# Altium schematic symbol library EIGHT_29.SchLib: 68 symbols
Pins are listed as number, name and electrical type; pins without a type are passive.

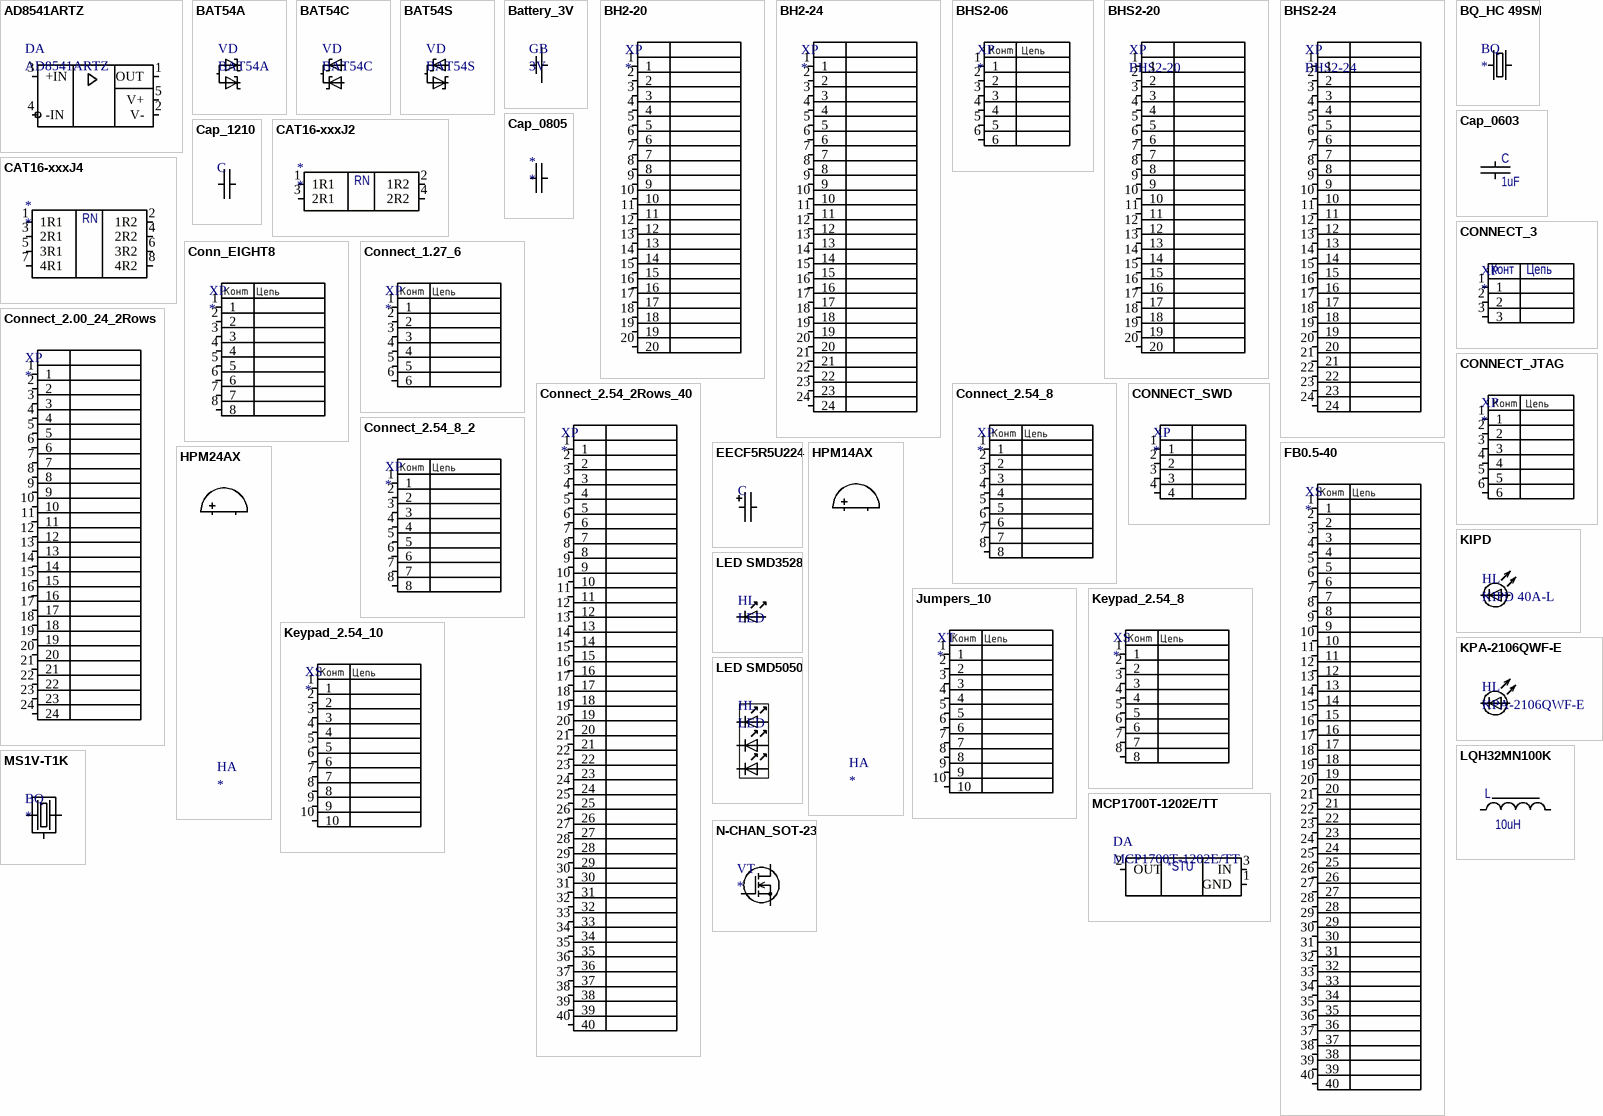
[diagram p0: symbols AD8541ARTZ to N-CHAN_SOT-23]

## AD8541ARTZ
designator DA
OpAmp
footprint SOT23-5
pins: 1 OUT, 2 V-, 3 +IN, 4 -IN, 5 V+

## BAT54A
designator VD
Part Number: BAT54A
footprint SOT-23
pins: 1, 2, 3

## BAT54C
designator VD
Part Number: BAT54C
footprint SOT-23
pins: 1, 2, 3

## BAT54S
designator VD
Part Number: BAT54S
footprint SOT-23
pins: 1, 2, 3

## Battery_3V
designator GB, comment 3V
Keystone - 1066; Part Number: Keystone - 1066; Price: 40.0
footprint Keystone-1066 (Bat holder)
pins: 1, 2

## BH2-20
designator XP
Part Number: BH2-20
footprint BH2-20
pins: 1, 2, 3, 4, 5, 6, 7, 8, 9, 10, 11, 12, 13, 14, 15, 16, 17, 18, 19, 20

## BH2-24
designator XP
footprint BH2-24
pins: 1, 2, 3, 4, 5, 6, 7, 8, 9, 10, 11, 12, 13, 14, 15, 16, 17, 18, 19, 20, 21, 22, 23, 24

## BHS2-06
designator XP
BHS2-06; Price: 10; Distributor: http://www.brownbear.ru/; Part Number: BHS2-06; PackageReference: SMD; Manufacturer: http://www.brownbear.ru/
footprint BHS2-06
pins: 1, 2, 3, 4, 5, 6

## BHS2-20
designator XP
Manufacturer: http://www.mobicon.ru; PackageReference: BHS2-20; Part Number: BHS2-20; Distributor: http://www.mobicon.ru; Price: 20
footprint BHS2-20
pins: 1, 2, 3, 4, 5, 6, 7, 8, 9, 10, 11, 12, 13, 14, 15, 16, 17, 18, 19, 20

## BHS2-24
designator XP
Manufacturer: http://www.mobicon.ru; PackageReference: BHS2-24; Part Number: BHS2-24; Distributor: http://www.mobicon.ru; Price: 20
footprint BHS2-24
pins: 1, 2, 3, 4, 5, 6, 7, 8, 9, 10, 11, 12, 13, 14, 15, 16, 17, 18, 19, 20, 21, 22, 23, 24

## BQ_HC 49SM
designator BQ
footprint HC 49SM
pins: 1, 2

## Cap_0603
designator C, comment 1uF
Manufacturer: AVX; Part Number: 0603YC105KAT2A; Replacement: GRM188R71E105KA12D; PackageReference: 0603; Value: 1uF; Distributor: http://www.rospek.ru; Price: 3.00
footprint CAP_0603
pins: 1, 2

## Cap_0805
designator *
footprint CAP_0805
pins: 1, 2

## Cap_1210
designator C
Manufacturer: KEMET; Part Number: C1210C475K5RACAUTO; Value: 4.7uF; PackageReference: 1210; Distributor: http://chipdip.ru/; Price: 80
footprint 1210
pins: 1, 2

## CAT16-xxxJ2
designator *
footprint CAT16-xxxJ2
pins: 1 1R1, 2 1R2, 3 2R1, 4 2R2
text: RN

## CAT16-xxxJ4
designator *
footprint CAT16-xxxJ4
pins: 1 1R1, 2 1R2, 3 2R1, 4 2R2, 5 3R1, 6 3R2, 7 4R1, 8 4R2
text: RN

## Conn_EIGHT8
designator XP
footprint CONN2-8 (BH2-20)
pins: 1, 2, 3, 4, 5, 6, 7, 8

## Connect_1.27_6
designator XP
Part Number: PLL1.27-6
footprint CONN_1.24_6
pins: 1, 2, 3, 4, 5, 6

## Connect_2.00_24_2Rows
designator XP
footprint PLD2-24
pins: 1, 2, 3, 4, 5, 6, 7, 8, 9, 10, 11, 12, 13, 14, 15, 16, 17, 18, 19, 20, 21, 22, 23, 24

## Connect_2.54_2Rows_40
designator XP
footprint CONN_2.54_2Row_40
pins: 1, 2, 3, 4, 5, 6, 7, 8, 9, 10, 11, 12, 13, 14, 15, 16, 17, 18, 19, 20, 21, 22, 23, 24, 25, 26, 27, 28, 29, 30, 31, 32, 33, 34, 35, 36, 37, 38, 39, 40

## Connect_2.54_8
designator XP
footprint CONN_2.54_8
pins: 1, 2, 3, 4, 5, 6, 7, 8

## Connect_2.54_8_2
designator XP
Part Number: BH-8
footprint LEGS8
pins: 1, 2, 3, 4, 5, 6, 7, 8

## CONNECT_3
designator XP
footprint CONN_2.54_3
pins: 1, 2, 3
text: Конт; Цепь

## CONNECT_JTAG
designator XP
footprint CONN_2.54_6
pins: 1, 2, 3, 4, 5, 6

## CONNECT_SWD
designator XP
footprint CONN_2.54_4
pins: 1, 2, 3, 4

## EECF5R5U224
designator C
Manufacturer: PANASONIC; Part Number: EECF5R5U224; PackageReference: 5.0 mm; Distributor: http://chipdip.ru/; Price: 80
footprint EECF5R5U224 (EECF5R5U224 ultracapacitor)
pins: 1, 2

## FB0.5-40
designator XS
FB0.5-40; Price: 30; Distributor: http://www.brownbear.ru/; Part Number: FB0.5-40; PackageReference: SMD-40; Manufacturer: http://www.brownbear.ru/
footprint FB0.5-40
pins: 1, 2, 3, 4, 5, 6, 7, 8, 9, 10, 11, 12, 13, 14, 15, 16, 17, 18, 19, 20, 21, 22, 23, 24, 25, 26, 27, 28, 29, 30, 31, 32, 33, 34, 35, 36, 37, 38, 39, 40

## HPM14AX
designator HA
footprint HPM14AX
pins: 1, 2

## HPM24AX
designator HA
footprint HPM24AX
pins: 1, 2

## Jumpers_10
designator XT
footprint CONN2-10 (BH2-20)
pins: 1, 2, 3, 4, 5, 6, 7, 8, 9, 10

## Keypad_2.54_8
designator XS
footprint Keypad_2.54_8
pins: 1, 2, 3, 4, 5, 6, 7, 8

## Keypad_2.54_10
designator XS
footprint CONN_2.54_10
pins: 1, 2, 3, 4, 5, 6, 7, 8, 9, 10

## KIPD
designator HL, comment KIPD 40A-L
footprint kipd
pins: 1, 2

## KPA-2106QWF-E
designator HL
Manufacturer: Kingbright; Replacement: 0802 ultrabright LED white; Distributor: http://www.chip-dip.ru; Part Number: KPA-2106QWF-E; PackageReference: 0802
footprint LED_0805
pins: 1, 2

## LED SMD3528
designator HL, comment LED
SMD3528; Manufacturer: DIODES; Price: 30; Distributor: http://www.chipdip.ru/; PackageReference: DO-214AC
footprint DO-214AC
pins: 1, 2

## LED SMD5050
designator HL, comment LED
SMD5050; Manufacturer: DIODES; Price: 3; Distributor: http://www.chipdip.ru/; PackageReference: 5050
footprint LED5050
pins: 1, 2, 3, 4, 5, 6

## LQH32MN100K
designator L, comment 10uH
10 uH 1210; Manufacturer: Murata; Part Number: LQH32MN100K; Replacement: LQH3C100K24; PackageReference: 1210; Distributor: http://www.chipdip.ru; Price: 10
footprint 1210
pins: 1, 2

## MCP1700T-1202E/TT
designator DA
Manufacturer: Microchip; PackageReference: SOT-23; Part Number: MCP1700T-1202E/TT; Distributor: http://radel.ru; Price: 20
footprint SOT-23
pins: 1 GND, 2 OUT, 3 IN
text: *STU

## MS1V-T1K
designator BQ
MS1V-T1K Quartz 32kHz 6pF; Part Number: MS1V-T1K 32.768kHZ 7pF
footprint Quartz32k (Resonator 32kHz)
pins: 1, 2, 3

## N-CHAN_SOT-23
designator VT
footprint SOT-23
pins: 1, 2, 3

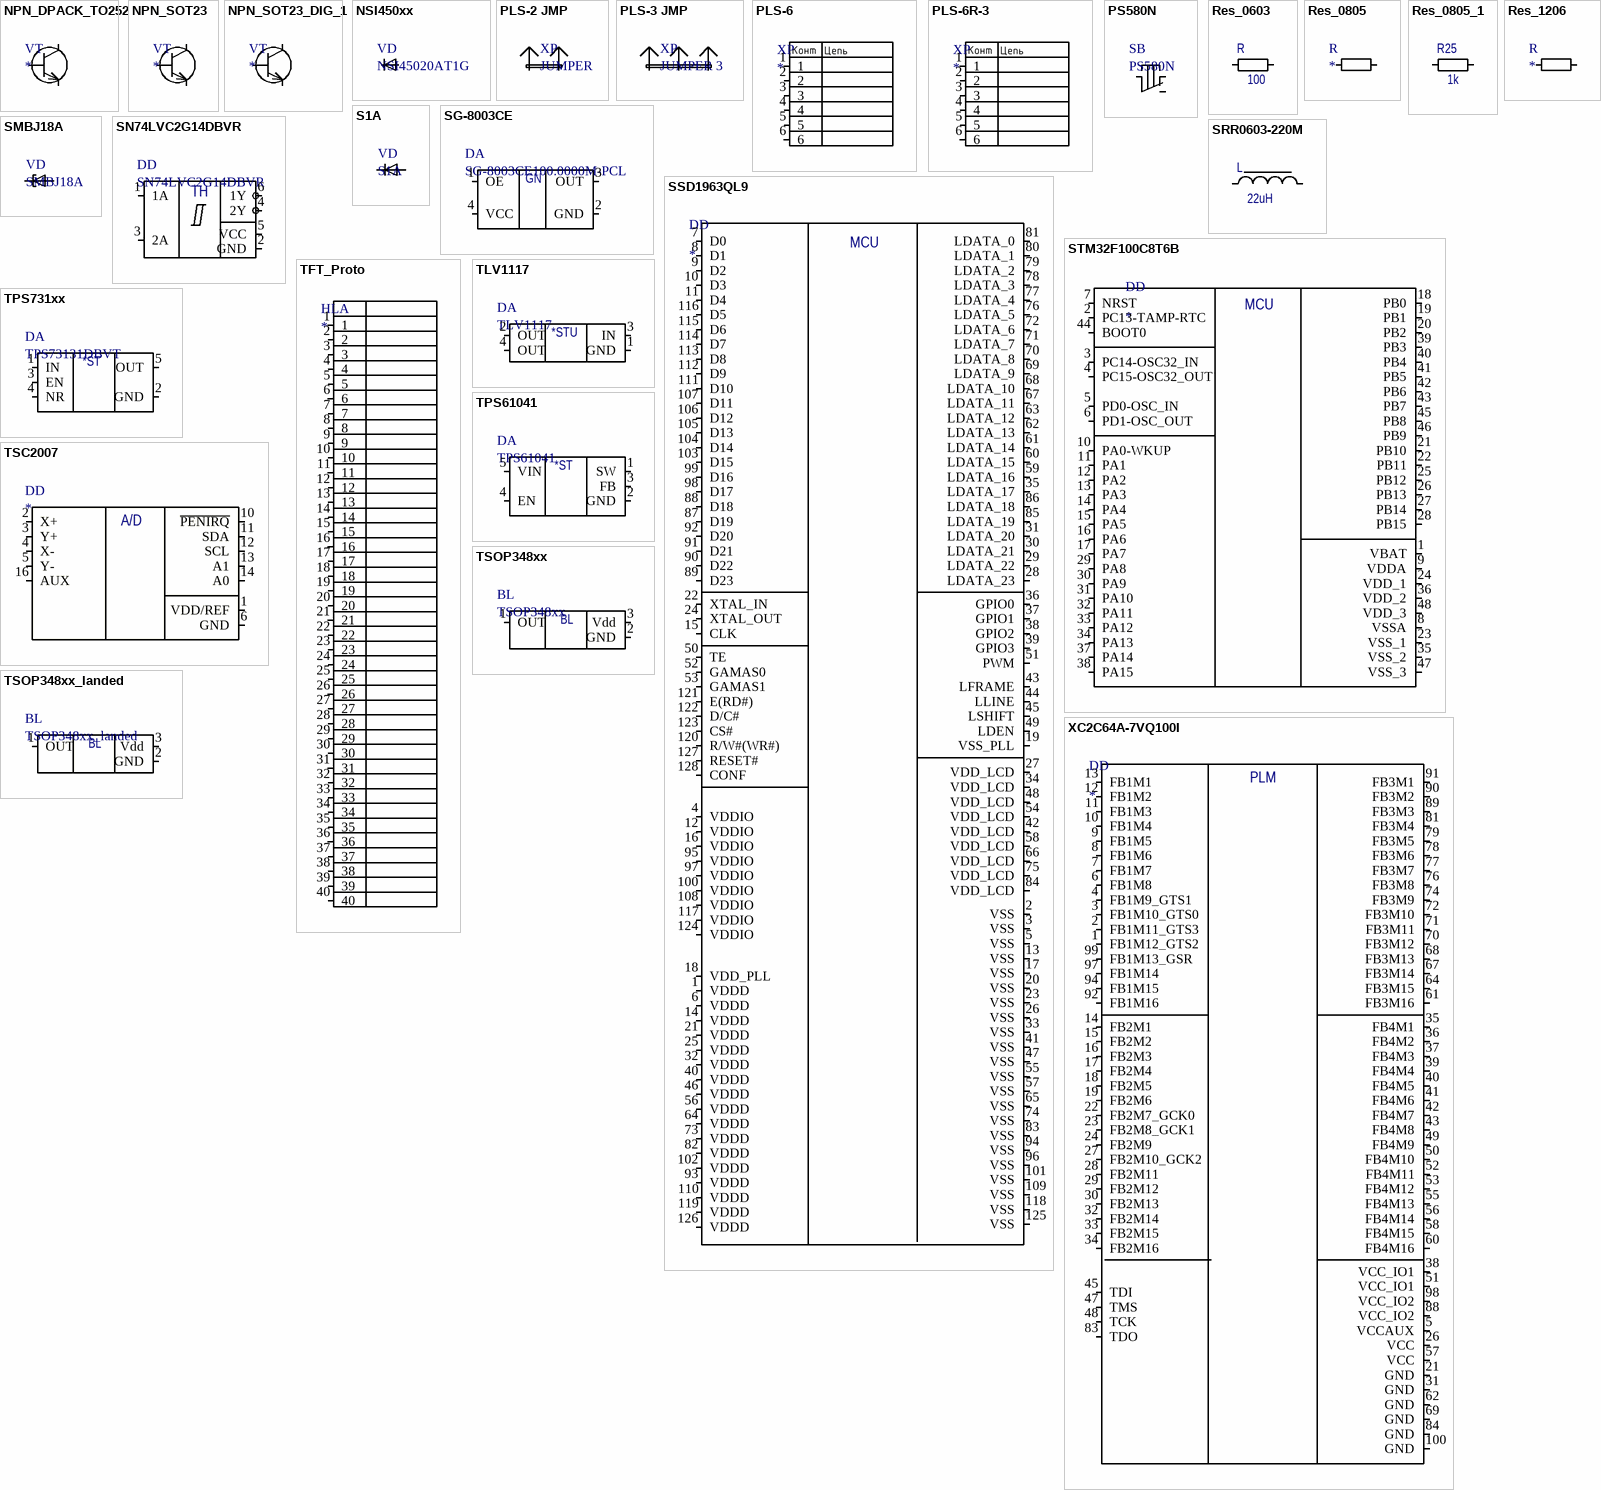
[diagram p1: symbols NPN_DPACK_TO252 to XC2C64A-7VQ100I]

## NPN_DPACK_TO252
designator VT
ZXT849K DPACK NPN; Part Number: ZXT849K
footprint TO-252 (TO252)
pins: 1, 2, 3

## NPN_SOT23
designator VT
BC817-40; Part Number: BC817-40
footprint SOT-23
pins: 1, 2, 3

## NPN_SOT23_DIG_1
designator VT
DTC144TKA NPN; Manufacturer: Discrete Semiconductors; PackageReference: sot-23; Replacement: -; Part Number: DTC144TKA; Value: -; Distributor: http://www.region-virta.ru; Price: 10
footprint SOT-23
pins: 1, 2, 3

## NSI450xx
designator VD, comment NSI45020AT1G
footprint SOD-123
pins: 1, 2

## PLS-2 JMP
designator XP, comment JUMPER
JUMPER 2.54; Part Number: PLS-2
footprint CONN_2.54_2
pins: 1, 2

## PLS-3 JMP
designator XP, comment JUMPER 3
JUMPER 2.54 3; Manufacturer: Zhenqin; Part Number: PLS-3; PackageReference: PLS-3; Distributor: http://www.chipdip.ru; Price: 1
footprint CONN_2.54_3
pins: 1, 2, 2

## PLS-6
designator XP
PLS-6; Manufacturer: CONNFLY; PackageReference: DIP-6; Replacement: -; Part Number: PLS-6; Value: -; Distributor: http://www.brownbear.ru/; Price: 9.80
footprint PLS-6 (PLS connector)
pins: 1, 2, 3, 4, 5, 6

## PLS-6R-3
designator XP
Manufacturer: CONNFLY; Part Number: PLS-6R-3; PackageReference: DIP-6; Replacement: -; Value: -; Distributor: http://www.brownbear.ru/; Price: 9.80
footprint PLS-6R-3 (PLS connector)
pins: 1, 2, 3, 4, 5, 6

## PS580N
designator SB
PS580N button; Manufacturer: Wealth Metal Factory; Price: 25; Distributor: http://chipdip.ru; Part Number: PS580N; PackageReference: SOP-6
footprint PS580N (button)
pins: 1, 2, 3

## Res_0603
designator R, comment 100
0603, 100; Manufacturer: Vishay; Part Number: CRCW0603100RJNEA; Replacement: 0805 100 Ohm 5%; PackageReference: 0805; Value: 100; Distributor: http://www.kontest.ru; Price: 1.00
footprint CAP_0603
pins: 1, 2

## Res_0805
designator R
footprint Res_0805
pins: 1, 2

## Res_0805_1
designator R25, comment 1k
0805 1kOhm 5% 0.125W; Manufacturer: Vishay; Part Number: CRCW08051K00JNTA; Replacement: RC0805JR-071K5L; PackageReference: 0805; Value: 1k; Distributor: http://www.kontest.ru; Price: 1.00
footprint Res_0805
pins: 1, 2

## Res_1206
designator R
footprint Res_1206
pins: 1, 2

## S1A
designator VD
Manufacturer: Fairchild; Price: 3; Distributor: http://www.chipdip.ru/; Part Number: S1A; PackageReference: DO-214AC
footprint DO-214AC
pins: 1, 2

## SG-8003CE
designator DA, comment SG-8003CE100.0000M-PCL
Manufacturer: Epson; Price: 500; Distributor: http://www.compel.ru/; Part Number: SG-8003CE100.0000M-PCL; PackageReference: CE SMD
footprint SG-8003CE
pins: 1 OE, 2 GND, 3 OUT, 4 VCC
text: GN

## SMBJ18A
designator VD
Manufacturer: DIODES; Price: 30; Distributor: http://www.chipdip.ru/; Part Number: SMBJ18A; PackageReference: DO-214AC
footprint DO-214AC
pins: 1, 2

## SN74LVC2G14DBVR
designator DD
Part Number: SN74LVC2G14DBVR
footprint SOT23-6
pins: 1 1A, 2 GND, 3 2A, 4 2Y, 5 VCC, 6 1Y
text: TH

## SRR0603-220M
designator L, comment 22uH
22 uH 1210; Manufacturer: Bourns; Replacement: SRR0603-220M; PackageReference: SMD; Part Number: SRR0603-220M; Distributor: http://www.chipdip.ru; Price: 40
footprint SRR0603-220M
pins: 1, 2

## SSD1963QL9
designator DD
LCD driver; Part Number: SSD1963QL9; Manufacturer: SLOMON; Price: 1000; Distributor: rospek.ru; PackageReference: LQFP-128
footprint LQFP-128
pins: 1 VDDD, 2 VSS, 3 VSS, 4 VDDIO, 5 VSS, 6 VDDD, 7 D0, 8 D1, 9 D2, 10 D3, 11 D4, 12 VDDIO, 13 VSS, 14 VDDD, 15 CLK, 16 VDDIO, 17 VSS, 18 VDD_PLL, 19 VSS_PLL, 20 VSS, 21 VDDD, 22 XTAL_IN, 23 VSS, 24 XTAL_OUT, 25 VDDD, 26 VSS, 27 VDD_LCD, 28 LDATA_23, 29 LDATA_22, 30 LDATA_21, 31 LDATA_20, 32 VDDD, 33 VSS, 34 VDD_LCD, 35 LDATA_17, 36 GPIO0, 37 GPIO1, 38 GPIO2, 39 GPIO3, 40 VDDD, 41 VSS, 42 VDD_LCD, 43 LFRAME, 44 LLINE, 45 LSHIFT, 46 VDDD, 47 VSS, 48 VDD_LCD, 49 LDEN, 50 TE, 51 PWM, 52 GAMAS0, 53 GAMAS1, 54 VDD_LCD, 55 VSS, 56 VDDD, 57 VSS, 58 VDD_LCD, 59 LDATA_16, 60 LDATA_15, 61 LDATA_14, 62 LDATA_13, 63 LDATA_12, 64 VDDD, 65 VSS, 66 VDD_LCD, 67 LDATA_11, 68 LDATA_10, 69 LDATA_9, 70 LDATA_8, 71 LDATA_7, 72 LDATA_6, 73 VDDD, 74 VSS, 75 VDD_LCD, 76 LDATA_5, 77 LDATA_4, 78 LDATA_3, 79 LDATA_2, 80 LDATA_1, 81 LDATA_0, 82 VDDD, 83 VSS, 84 VDD_LCD, 85 LDATA_19, 86 LDATA_18, 87 D19, 88 D18, 89 D23, 90 D22, 91 D21, 92 D20, 93 VDDD, 94 VSS, 95 VDDIO, 96 VSS, 97 VDDIO, 98 D17, 99 D16, 100 VDDIO, 101 VSS, 102 VDDD, 103 D15, 104 D14, 105 D13, 106 D12, 107 D11, 108 VDDIO, 109 VSS, 110 VDDD, 111 D10, 112 D9, 113 D8, 114 D7, 115 D6, 116 D5, 117 VDDIO, 118 VSS, 119 VDDD, 120 R/W#(WR#), 121 E(RD#), 122 D/C#, 123 CS#, 124 VDDIO, 125 VSS, 126 VDDD, 127 RESET#, 128 CONF
text: MCU

## STM32F100C8T6B
designator DD
footprint LQFP48
pins: 1 VBAT, 2 PC13-TAMP-RTC, 3 PC14-OSC32_IN, 4 PC15-OSC32_OUT, 5 PD0-OSC_IN, 6 PD1-OSC_OUT, 7 NRST, 8 VSSA, 9 VDDA, 10 PA0-WKUP, 11 PA1, 12 PA2, 13 PA3, 14 PA4, 15 PA5, 16 PA6, 17 PA7, 18 PB0, 19 PB1, 20 PB2, 21 PB10, 22 PB11, 23 VSS_1, 24 VDD_1, 25 PB12, 26 PB13, 27 PB14, 28 PB15, 29 PA8, 30 PA9, 31 PA10, 32 PA11, 33 PA12, 34 PA13, 35 VSS_2, 36 VDD_2, 37 PA14, 38 PA15, 39 PB3, 40 PB4, 41 PB5, 42 PB6, 43 PB7, 44 BOOT0, 45 PB8, 46 PB9, 47 VSS_3, 48 VDD_3
text: MCU

## TFT_Proto
designator HLA
footprint TFT_Proto
pins: 1, 2, 3, 4, 5, 6, 7, 8, 9, 10, 11, 12, 13, 14, 15, 16, 17, 18, 19, 20, 21, 22, 23, 24, 25, 26, 27, 28, 29, 30, 31, 32, 33, 34, 35, 36, 37, 38, 39, 40

## TLV1117
designator DA
TLV1117-sot223; Manufacturer: Microchip; PackageReference: SOT-223; Part Number: TLV1117; Distributor: http://radel.ru; Price: 20
footprint SOT223
pins: 1 GND, 2 OUT, 3 IN, 4 OUT
text: *STU

## TPS731xx
designator DA, comment TPS73131DBVT
TPS79925DDCT Linear Regulator; Part Number: TPS73131DBVT
footprint SOT23-5
pins: 1 IN, 2 GND, 3 EN, 4 NR, 5 OUT
text: *ST

## TPS61041
designator DA
TPS61041 step-Up; Manufacturer: Texas Instruments; Price: 15; Distributor: http://www.compel.ru/; Part Number: TPS61041; PackageReference: SOT-23-5
footprint SOT23-5
pins: 1 SW, 2 GND, 3 FB, 4 EN, 5 VIN
text: *ST

## TSC2007
designator DD
footprint PDSO-G16
pins: 1 VDD/REF, 2 X+, 3 Y+, 4 X-, 5 Y-, 6 GND, 10 ~{PENIRQ}, 11 SDA, 12 SCL, 13 A1, 14 A0, 16 AUX
text: A/D

## TSOP348xx
designator BL
footprint TSOP348xx
pins: 1 OUT, 2 GND, 3 Vdd

## TSOP348xx_landed
designator BL
footprint TSOP348xx -landed
pins: 1 OUT, 2 GND, 3 Vdd

## XC2C64A-7VQ100I
designator DD
CPLD; Part Number: SSD1963QL9; Manufacturer: SLOMON; Price: 1000; Distributor: rospek.ru; PackageReference: LQFP-128
footprint VQ100_N (100-Pin Very Thin Quad Flat Pack (VQ100), IPC Medium Density)
pins: 1 FB1M12_GTS2, 2 FB1M11_GTS3, 3 FB1M10_GTS0, 4 FB1M9_GTS1, 5 VCCAUX, 6 FB1M8, 7 FB1M7, 8 FB1M6, 9 FB1M5, 10 FB1M4, 11 FB1M3, 12 FB1M2, 13 FB1M1, 14 FB2M1, 15 FB2M2, 16 FB2M3, 17 FB2M4, 18 FB2M5, 19 FB2M6, 21 GND, 22 FB2M7_GCK0, 23 FB2M8_GCK1, 24 FB2M9, 26 VCC, 27 FB2M10_GCK2, 28 FB2M11, 29 FB2M12, 30 FB2M13, 31 GND, 32 FB2M14, 33 FB2M15, 34 FB2M16, 35 FB4M1, 36 FB4M2, 37 FB4M3, 38 VCC_IO1, 39 FB4M4, 40 FB4M5, 41 FB4M6, 42 FB4M7, 43 FB4M8, 45 TDI, 47 TMS, 48 TCK, 49 FB4M9, 50 FB4M10, 51 VCC_IO1, 52 FB4M11, 53 FB4M12, 55 FB4M13, 56 FB4M14, 57 VCC, 58 FB4M15, 60 FB4M16, 61 FB3M16, 62 GND, 64 FB3M15, 67 FB3M14, 68 FB3M13, 69 GND, 70 FB3M12, 71 FB3M11, 72 FB3M10, 74 FB3M9, 76 FB3M8, 77 FB3M7, 78 FB3M6, 79 FB3M5, 81 FB3M4, 83 TDO, 84 GND, 88 VCC_IO2, 89 FB3M3, 90 FB3M2, 91 FB3M1, 92 FB1M16, 94 FB1M15, 97 FB1M14, 98 VCC_IO2, 99 FB1M13_GSR, 100 GND
text: PLM